# EAGLE library part 653108124022 (library WR-WTB)
WR-WTB 1.25 mm SMT Male Vertical Shrouded Header Material Properties Insulator Material PA9T Insulator Flammability Rating UL94 V-0 Color Ivory Contact Material Copper Alloy Contact Plating Tin Contact Type Stamped Certification UL Approval E323964 General Information Operating Temperature -40 °C up to +85 °C Compliance RoHS IR 1 A Working Voltage 125 V (AC) Withstanding Voltage 250 V (AC) Contact Resistance 20 mΩ RISO 100 MΩ Pitch 1.25 mm Gender Male Type Vertical Packaging Properties Packaging Tape and Reel Details see: www.we-online.com/en/components/products/WTB_1_25_SMT_MALE_VERTICAL_SHROUDED_HEADER_6531XX124022 Updated by Ella 2025-03-06 2025 (C) Würth Elektronik
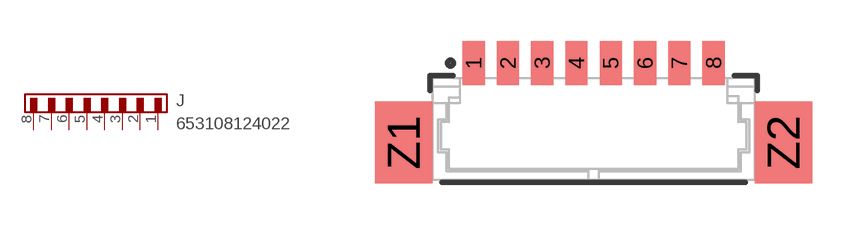
[diagram p79: symbol with the pads of 653108124022; footprint 653108124022]

Designator prefix J

## 653108124022 (CONTACT-RESISTANCE: 20mOhm; DATASHEET: https://www.we-online.com/redexpert/spec/653108124022?ae; GENDER: Male; IR: 1A; L: 14.75mm; MOUNT: SMT; PACKAGING: Tape and Reel; PART-NUMBER: 653108124022; PCB-CABLE-PANEL: PCB; PINS: 8; PITCH: 1.25mm; TYPE: Vertical; VALUE: 653108124022; WORKING-VOLTAGE: 125V(AC))  [653108124022]
1  1  pas
2  2  pas
3  3  pas
4  4  pas
5  5  pas
6  6  pas
7  7  pas
8  8  pas

## Footprint 653108124022 (pad centres in mm)
WR-WTB 1.25 mm SMT Male Vertical Shrouded Header,8 Pins
smd 0.81 x 1.6: 1 -4.375,2.41; 2 -3.125,2.41; 3 -1.875,2.41; 4 -0.625,2.41; 5 0.625,2.41; 6 1.875,2.41; 7 3.125,2.41; 8 4.375,2.41
smd 2.1 x 3: Z1 -6.925,-0.49; Z2 6.925,-0.49